# EAGLE library part THP210DR (library THP210DR)
Operational Amplifiers - Op Amps High precision (40- V, 0.1 V/C), high-voltage (36-V), low-noise (3.7-nV/ Hz), fully-differential amp 8-SOIC -40 to 125 Source: Datasheet <https://www.ti.com/lit/gpn/THP210>
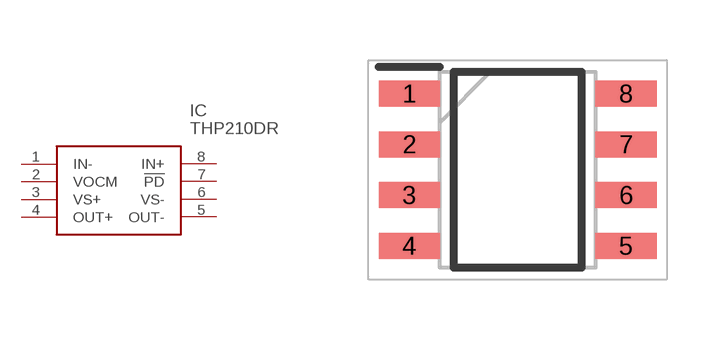
[diagram p0: symbol with the pads of SOIC127P600X175-8N; footprint SOIC127P600X175-8N]

Designator prefix IC

## THP210DR (Description: Operational Amplifiers - Op Amps High precision (40- V, 0.1 V/C), high-voltage (36-V), low-noise (3.7-nV/ Hz), fully-differential amp 8-SOIC -40 to 125; Height: 1.75mm; Manufacturer_Name: Texas Instruments; Manufacturer_Part_Number: THP210DR; Mouser_Part_Number: 595-THP210DR; Mouser_Price-Stock: https://www.mouser.co.uk/ProductDetail/Texas-Instruments/THP210DR?qs=eP2BKZSCXI6TpSz98mjAmQ%3D%3D)  [SOIC127P600X175-8N]
1  IN-
2  VOCM
3  VS+
4  OUT+
5  OUT-
6  VS-
7  !PD
8  IN+

## Footprint SOIC127P600X175-8N (pad centres in mm)
D0008A SOIC
smd 1.528 x 0.65: 1 -2.711,1.905; 2 -2.711,0.635; 3 -2.711,-0.635; 4 -2.711,-1.905; 5 2.711,-1.905; 6 2.711,-0.635; 7 2.711,0.635; 8 2.711,1.905